# Altium footprint library Components - 23.04.26 - 11.36.PcbLib: 1 footprints
Each footprint in its own frame and in the unit in brackets; x right, y up, seen from the top. Pads: shape width x height; smd on the part's side, far side on the other; paste and mask are expansions set on the pad; w line width, h text height; cw(c..) or ccw(c..) is an arc to the next point about the centre after c.
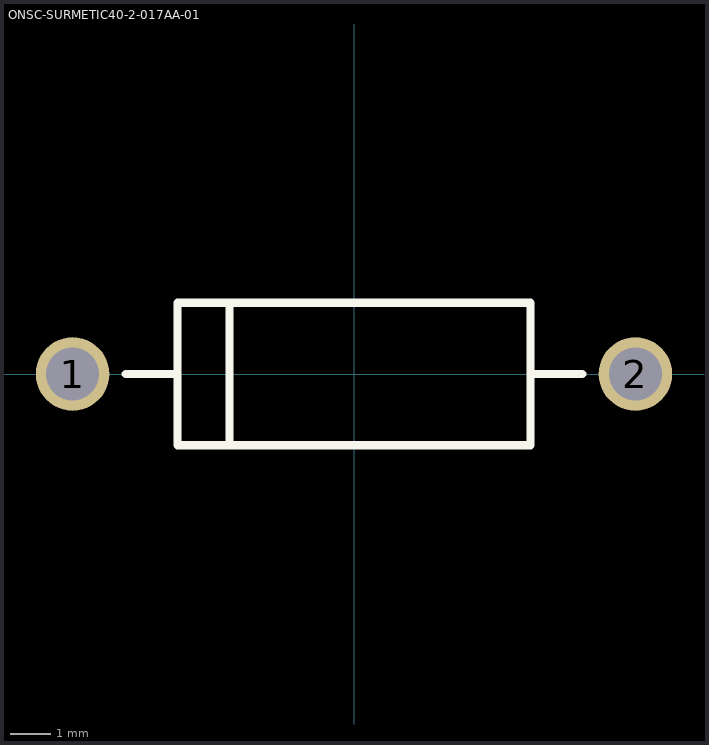
[diagram p0: the footprint, top view; thin cyan lines are the x and y axes]

## ONSC-SURMETIC40-2-017AA-01 [mm] "AXIAL, 2-Leads, Diameter 3.49mm"
height 3.49
pads (2):
  round 1.8 hole 1.3: 1(-6.887,0) 2(6.887,0)
Top Overlay:
  lines w0.2: -5.587,0 -4.317,0 ; -3.047,-1.745 -3.047,1.745 ; 4.317,0 5.587,0 ; -4.317,-1.745 4.317,-1.745 4.317,1.745 -4.317,1.745 -4.317,-1.745